# Altium footprint library ecoVENTV.PcbLib: 46 footprints (part 3 of 3)
Each footprint in its own frame and in the unit in brackets; x right, y up, seen from the top. Pads: shape width x height; smd on the part's side, far side on the other; paste and mask are expansions set on the pad; w line width, h text height; cw(c..) or ccw(c..) is an arc to the next point about the centre after c.
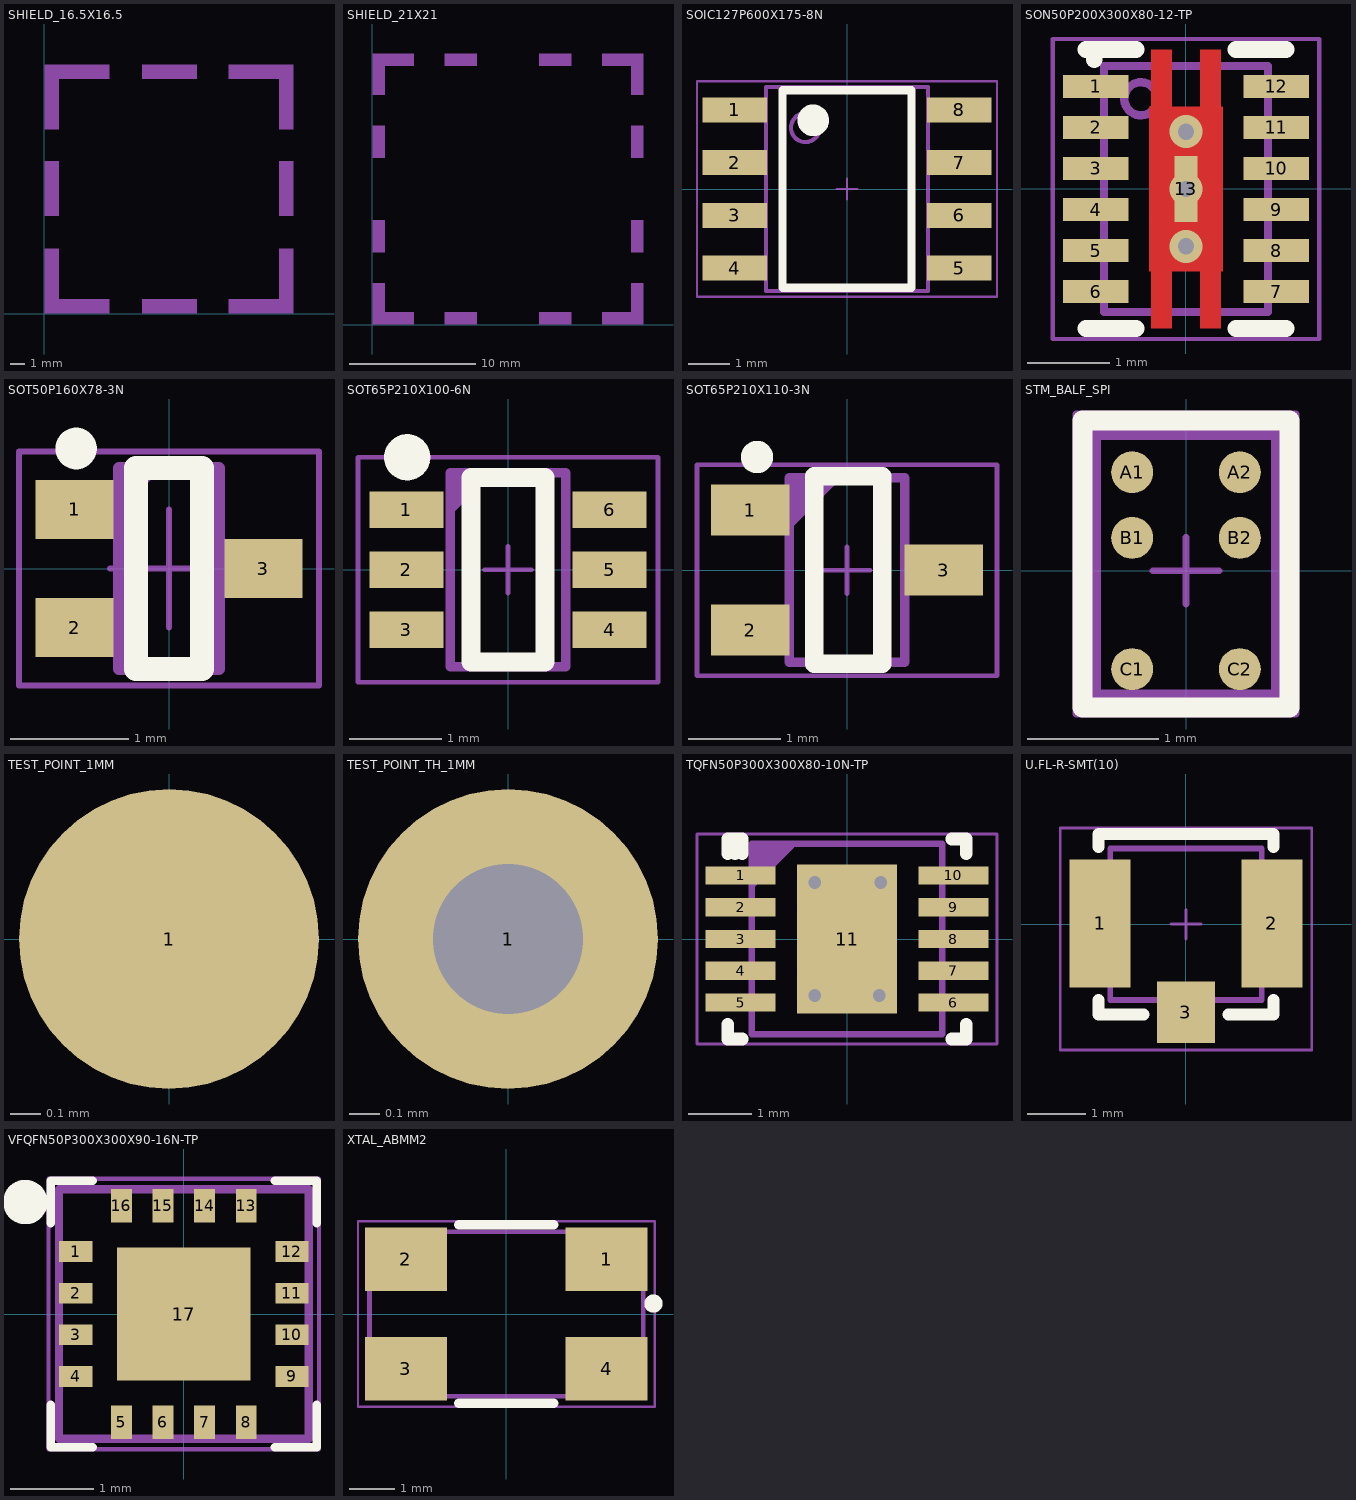
[diagram p2: the footprints below, top view; thin cyan lines are the x and y axes]

## SHIELD_16.5X16.5 [mm]
Mechanical 5:
  region: 6.75,17.25 6.75,16.25 10.55,16.25 10.55,17.25
  region: 0,17.25 0,16.25 4.5,16.25 4.5,17.25
  region: 17.25,16.25 17.25,17.25 12.75,17.25 12.75,16.25
  rectangle: 16.25,6.75 17.25,10.55
  rectangle: 16.25,0 17.25,4.5
  region: 17.25,17.25 16.25,17.25 16.25,12.75 17.25,12.75
  rectangle: 0,6.75 1,10.55
  rectangle: 0,0 1,4.5
  region: 1,17.25 0,17.25 0,12.75 1,12.75
  region: 17.25,0 17.25,1 12.75,1 12.75,0
  region: 0,1 0,0 4.5,0 4.5,1
  region: 6.75,1 6.75,0 10.55,0 10.55,1

## SHIELD_21X21 [mm]
Mechanical 5:
  rectangle: 0,0 1,3.3
  region: 3.3,0 3.3,1 0,1 0,0
  region: 21.5,3.3 20.5,3.3 20.5,0 21.5,0
  region: 21.5,0 21.5,1 18.2,1 18.2,0
  region: 0,21.5 0,20.5 3.3,20.5 3.3,21.5
  rectangle: 0,18.2 1,21.5
  region: 18.2,21.5 18.2,20.5 21.5,20.5 21.5,21.5
  region: 21.5,21.5 20.5,21.5 20.5,18.2 21.5,18.2
  rectangle: 0,5.7 1,8.3
  rectangle: 0,13.2 1,15.8
  rectangle: 20.5,13.2 21.5,15.8
  rectangle: 20.5,5.7 21.5,8.3
  region: 5.7,1 5.7,0 8.3,0 8.3,1
  region: 13.2,1 13.2,0 15.8,0 15.8,1
  region: 13.2,21.5 13.2,20.5 15.8,20.5 15.8,21.5
  region: 5.7,21.5 5.7,20.5 8.3,20.5 8.3,21.5

## SOIC127P600X175-8N [mm]
pads (8):
  rect 1.55x0.6 smd mask+0.051: 1(-2.7,1.905) 2(-2.7,0.635) 3(-2.7,-0.635) 4(-2.7,-1.905) 5(2.7,-1.905) 6(2.7,-0.635) 7(2.7,0.635) 8(2.7,1.905)
Top Overlay:
  circle w0.508: c-0.813,1.651 r0.127
  lines w0.2: -1.55,-2.375 1.55,-2.375 1.55,2.375 -1.55,2.375 -1.55,-2.375
Mechanical 1:
  circle w0.102: c-1,1.475 r0.346
  lines w0.102: -1.95,-2.45 1.95,-2.45 1.95,2.45 -1.95,2.45 -1.95,-2.45
  text ".Designator" at -0.914,-0.127 h0.51
Mechanical 15:
  lines w0.051: -0.254,0 0.254,0 ; 0,-0.254 0,0.254 ; -3.607,-2.591 3.607,-2.591 3.607,2.591 -3.607,2.591 -3.607,-2.591
3D body: height 1.75, standoff 0, extent -3,-2.45 3,2.45

## SON50P200X300X80-12-TP [mm]
height 0.8
pads (13):
  rect 0.8x0.28 smd mask+0.051: 1(-1.1,1.25) 2(-1.1,0.75) 3(-1.1,0.25) 4(-1.1,-0.25) 5(-1.1,-0.75) 6(-1.1,-1.25) 7(1.1,-1.25) 8(1.1,-0.75) 9(1.1,-0.25) 10(1.1,0.25) 11(1.1,0.75) 12(1.1,1.25)
  rect 0.28x0.8 smd mask+0.051: 13(0,0)
via 0,0 diameter 0.4 hole 0.2
via 0,-0.7 diameter 0.4 hole 0.2
via 0,0.7 diameter 0.4 hole 0.2
Top Layer:
  region: -0.45,1 -0.45,-1 -0.425,-1 -0.425,-1.7 -0.175,-1.7 -0.175,-1 0.175,-1 0.175,-1.7 0.425,-1.7 0.425,-1 0.45,-1 0.45,1 0.425,1 0.425,1.7 0.175,1.7 0.175,1 -0.175,1 -0.175,1.7 -0.425,1.7 -0.425,1
Top Overlay:
  lines w0.203: -1.219,-1.702 -0.61,-1.702 ; -1.219,1.702 -0.61,1.702 ; -1.118,1.575 -1.118,1.702 ; 0.61,-1.702 1.219,-1.702 ; 0.61,1.702 1.219,1.702
Top Paste:
  region: -0.35,0.8 -0.35,-0.8 0.35,-0.8 0.35,0.8
  region: 0.175,-1.1 0.175,-1.7 0.425,-1.7 0.425,-1.1
  region: -0.425,-1.1 -0.425,-1.7 -0.175,-1.7 -0.175,-1.1
  region: 0.175,1.7 0.175,1.1 0.425,1.1 0.425,1.7
  region: -0.425,1.7 -0.425,1.1 -0.175,1.1 -0.175,1.7
Mechanical 1:
  circle w0.102: c-0.55,1.1 r0.202
  lines w0.102: -1,-1.5 1,-1.5 1,1.5 -1,1.5 -1,-1.5
  text ".Designator" at 0.338,0.742 h0.51
Mechanical 15:
  lines w0.051: -0.254,0 0.254,0 ; 0,-0.254 0,0.254 ; -1.626,-1.829 1.626,-1.829 1.626,1.829 -1.626,1.829 -1.626,-1.829
3D body: height 0.8, standoff 0, extent -1,-1.5 1,1.5
3D body: height 0.81, standoff 0, extent -0.86,1.044 -0.561,1.344

## SOT50P160X78-3N [mm]
height 0.78
pads (3):
  rect 0.66x0.5 smd mask+0.051: 1(-0.8,0.5) 2(-0.8,-0.5) 3(0.8,0)
Top Overlay:
  circle w0.25: c-0.787,1.016 r0.051
  lines w0.203: -0.279,-0.85 0.279,-0.85 0.279,0.85 -0.279,0.85 -0.279,-0.85
Mechanical 1:
  lines w0.102: -0.425,0.55 -0.125,0.85 ; -0.425,0.65 -0.225,0.85 ; -0.425,0.75 -0.325,0.85 ; -0.425,-0.85 -0.425,0.85 0.425,0.85 0.425,-0.85 -0.425,-0.85
  text ".Designator" at -0.254,0.559 h0.51
Mechanical 15:
  lines w0.05: -0.5,0 0.5,0 ; 0,-0.5 0,0.5 ; -1.27,-0.991 -1.27,0.991 1.27,0.991 1.27,-0.991 -1.27,-0.991
3D body: height 0.78, standoff 0, extent -0.85,-0.85 0.85,0.85

## SOT65P210X100-6N [mm]
pads (6):
  rect 0.8x0.4 smd: 1(-1.1,0.65) 2(-1.1,0) 3(-1.1,-0.65) 4(1.1,-0.65) 5(1.1,0) 6(1.1,0.65)
Top Overlay:
  circle w0.25: c-1.092,1.219 r0.125
  lines w0.203: -0.4,-1 0.4,-1 0.4,1 -0.4,1 -0.4,-1
Mechanical 1:
  lines w0.102: -0.625,0.65 -0.225,1.05 ; -0.625,0.75 -0.325,1.05 ; -0.625,0.85 -0.425,1.05 ; -0.625,0.95 -0.525,1.05 ; -0.625,-1.05 0.625,-1.05 0.625,1.05 -0.625,1.05 -0.625,-1.05
  text ".Designator" at -0.175,0.675 h0.51
Mechanical 15:
  lines w0.051: -0.254,0 0.254,0 ; 0,-0.254 0,0.254 ; -1.626,-1.219 1.626,-1.219 1.626,1.219 -1.626,1.219 -1.626,-1.219
3D body: height 1.1, standoff 0, extent -1.2,-1.1 1.2,1.1

## SOT65P210X110-3N [mm]
height 1.25
pads (3):
  rect 0.85x0.55 smd: 1(-1.05,0.65) 2(-1.05,-0.65) 3(1.05,0)
Top Overlay:
  circle w0.25: c-0.975,1.225 r0.05
  lines w0.2: -0.356,-1.016 -0.356,1.016 0.381,1.016 0.381,-1.016 -0.356,-1.016
Mechanical 1:
  lines w0.102: -0.625,0.5 -0.125,1 ; -0.625,0.6 -0.225,1 ; -0.625,0.7 -0.325,1 ; -0.625,0.8 -0.425,1 ; -0.625,0.9 -0.525,1 ; -0.625,-1 -0.625,1 0.625,1 0.625,-1 -0.625,-1
  text ".Designator" at -0.15,0.4 h0.51
Mechanical 15:
  lines w0.05: -0.254,0 0.254,0 ; 0,-0.254 0,0.254 ; -1.626,-1.143 -1.626,1.143 1.626,1.143 1.626,-1.143 -1.626,-1.143
3D body: height 1.1, standoff 0, extent -1.123,-1.1 1.123,1.1

## STM_BALF_SPI [mm]
height 0.65
pads (6):
  round 0.32 smd paste-0.32 mask-0.05: A1(-0.41,0.75) A2(0.41,0.75) B1(-0.41,0.25) B2(0.41,0.25) C1(-0.41,-0.75) C2(0.41,-0.75)
Top Overlay:
  lines w0.152: -0.787,-1.041 -0.787,1.143 0.787,1.143 0.787,-1.041 -0.787,-1.041
Top Paste:
  rectangle: 0.3,-0.86 0.52,-0.64
  rectangle: -0.52,-0.86 -0.3,-0.64
  rectangle: -0.52,0.14 -0.3,0.36
  rectangle: 0.3,0.14 0.52,0.36
  rectangle: 0.3,0.64 0.52,0.86
  rectangle: -0.52,0.64 -0.3,0.86
Mechanical 1:
  circle w0.2: c-0.41,0.75 r0.056
  lines w0.102: -0.7,-0.955 0.7,-0.955 0.7,1.045 -0.7,1.045 -0.7,-0.955
  text ".Designator" at -0.083,0.794 h0.51
Mechanical 15:
  lines w0.051: -0.254,0 0.254,0 ; 0,-0.254 0,0.254 ; -0.838,-1.092 0.838,-1.092 0.838,1.194 -0.838,1.194 -0.838,-1.092
3D body: height 0.65, standoff 0.2, extent -0.7,-0.955 0.7,1.045
3D body: height 0.24, standoff -0.01, extent 0.286,-0.874 0.535,-0.626
3D body: height 0.24, standoff -0.01, extent -0.534,-0.874 -0.285,-0.626
3D body: height 0.24, standoff -0.01, extent -0.534,0.126 -0.285,0.374
3D body: height 0.24, standoff -0.01, extent 0.286,0.126 0.535,0.374
3D body: height 0.24, standoff -0.01, extent 0.286,0.626 0.535,0.874
3D body: height 0.24, standoff -0.01, extent -0.534,0.626 -0.285,0.874
3D body: height 0.66, standoff 0.6, extent -0.534,0.625 -0.285,0.875

## TEST_POINT_1MM [mm]
pads (1):
  round 1 smd paste-1: 1(0,0)
3D body: height 0.1, standoff 0, extent -0.496,-0.499 0.5,0.499

## TEST_POINT_TH_1MM [mm]
pads (1):
  round 1 hole 0.5 mask+0.051: 1(0,0)

## TQFN50P300X300X80-10N-TP [mm]
height 0.8
pads (11):
  rect 1.1x0.29 smd mask+0.051: 1(-1.675,1) 2(-1.675,0.5) 3(-1.675,0) 4(-1.675,-0.5) 5(-1.675,-1) 6(1.675,-1) 7(1.675,-0.5) 8(1.675,0) 9(1.675,0.5) 10(1.675,1)
  rect 1.58x2.35 smd paste+0 mask+0.051: 11(0,0)
via -0.508,-0.889 diameter 0.4 hole 0.2
via 0.533,0.889 diameter 0.4 hole 0.2
via 0.508,-0.889 diameter 0.4 hole 0.2
via -0.508,0.889 diameter 0.4 hole 0.2
Top Overlay:
  lines w0.2: -1.88,-1.346 -1.88,-1.575 -1.651,-1.575 ; -1.88,1.346 -1.88,1.575 -1.651,1.575 -1.651,1.346 ; -1.765,1.346 -1.765,1.575 ; 1.651,-1.575 1.88,-1.575 1.88,-1.346 ; 1.651,1.575 1.88,1.575 1.88,1.346
Mechanical 1:
  lines w0.102: -1.472,0.873 -0.872,1.473 ; -1.472,0.973 -0.972,1.473 ; -1.472,1.073 -1.072,1.473 ; -1.472,1.173 -1.172,1.473 ; -1.472,1.273 -1.272,1.473 ; -1.472,1.373 -1.372,1.473 ; -1.5,-1.5 1.5,-1.5 1.5,1.5 -1.5,1.5 -1.5,-1.5
  text ".Designator" at -0.73,-0.18 h0.51
Mechanical 15:
  lines w0.05: -0.5,0 0.5,0 ; 0,-0.5 0,0.5 ; -2.362,-1.651 2.362,-1.651 2.362,1.651 -2.362,1.651 -2.362,-1.651
3D body: height 0.8, standoff 0, extent -1.5,-1.5 1.5,1.5

## U.FL-R-SMT(10) [mm] "CONN UMC JACK STR 50 OHM SMD"
height 1.25
pads (3):
  rect 1.05x2.2 smd mask+0.051: 1(-1.475,0.013) 2(1.475,0.013)
  rect 1x1.05 smd mask+0.051: 3(0,-1.512)
Top Overlay:
  lines w0.203: -1.5,-1.3 -1.5,-1.55 -0.725,-1.55 ; -1.5,1.325 -1.5,1.55 1.5,1.55 1.5,1.325 ; 0.725,-1.55 1.5,-1.55 1.5,-1.3
Mechanical 1:
  lines w0.102: -1.3,-1.3 -1.3,1.3 1.3,1.3 1.3,-1.3 -1.3,-1.3
  text ".Designator" at -0.36,-0.12 h0.51
Mechanical 15:
  lines w0.051: -0.254,0 0.254,0 ; 0,-0.254 0,0.254 ; -2.159,-2.159 -2.159,1.651 2.159,1.651 2.159,-2.159 -2.159,-2.159
3D body: height 1.25, standoff 0, extent -1.5,-1.55 1.5,1.55

## VFQFN50P300X300X90-16N-TP [mm] "VFQFN 0.5mm Pitch 3x3mm Body"
height 0.9
pads (17):
  rect 0.4x0.25 smd: 1(-1.3,0.75) 2(-1.3,0.25) 3(-1.3,-0.25) 4(-1.3,-0.75) 9(1.3,-0.75) 10(1.3,-0.25) 11(1.3,0.25) 12(1.3,0.75)
  rect 0.25x0.4 smd: 5(-0.75,-1.3) 6(-0.25,-1.3) 7(0.25,-1.3) 8(0.75,-1.3) 13(0.75,1.3) 14(0.25,1.3) 15(-0.25,1.3) 16(-0.75,1.3)
  rect 1.6x1.6 smd: 17(0,0)
Top Overlay:
  circle w0.381: c-1.905,1.346 r0.076
  lines w0.102: -1.6,-1.092 -1.6,-1.6 -1.092,-1.6 ; -1.6,1.092 -1.6,1.6 -1.092,1.6 ; 1.092,-1.6 1.6,-1.6 1.6,-1.092 ; 1.092,1.6 1.6,1.6 1.6,1.092
Mechanical 1:
  lines w0.102: -1.5,-1.5 1.5,-1.5 1.5,1.5 -1.5,1.5 -1.5,-1.5
Mechanical 15:
  lines w0.051: -0.254,0 0.254,0 ; 0,-0.254 0,0.254 ; -1.626,-1.626 1.626,-1.626 1.626,1.626 -1.626,1.626 -1.626,-1.626
3D body: height 0.9, standoff 0, extent -1.5,-1.5 1.5,1.5

## XTAL_ABMM2 [mm] "Crystal/Oscillator in 6x3.2 mm package"
height 1.219
pads (4):
  rect 1.8x1.4 smd: 1(2.2,1.2) 2(-2.2,1.2) 3(-2.2,-1.2) 4(2.2,-1.2)
Top Overlay:
  circle w0.2: c3.226,0.229 r0.1
  lines w0.203: -1.041,-1.956 1.041,-1.956 ; -1.041,1.956 1.041,1.956
Mechanical 1:
  lines w0.102: -3,-1.8 -3,-0.5 -3,1.8 3,1.8 3,-1.8 -3,-1.8
  text ".Designator" at -0.584,-0.076 h0.51
Mechanical 15:
  lines w0.051: -3.251,-2.032 3.251,-2.032 3.251,2.032 -3.251,2.032 -3.251,-2.032
3D body: height 1.21, standoff 0, extent -3,-1.8 3,1.8